# EAGLE library part 750311267 (library Midcom Inc - EAGLE Lib V2-0)
Package Style: PQ3230 Mounting: THT Pins: 12 pins Bobbin: 070-4796 Best pinouts for production vary per application. Please contact Wurth Electronics Midcom, Inc. for assistance with your custom design. Website: Wurth Electronics Midcom <http://www.we-online.com/midcom> Contact us Wurth Electronics Midcom, Inc. 121 Airport Dr. Watertown, SD 57201 Phone: (605) 886-4385 Fax: (605) 886-4486 E-Mail: midcom@we-online.com
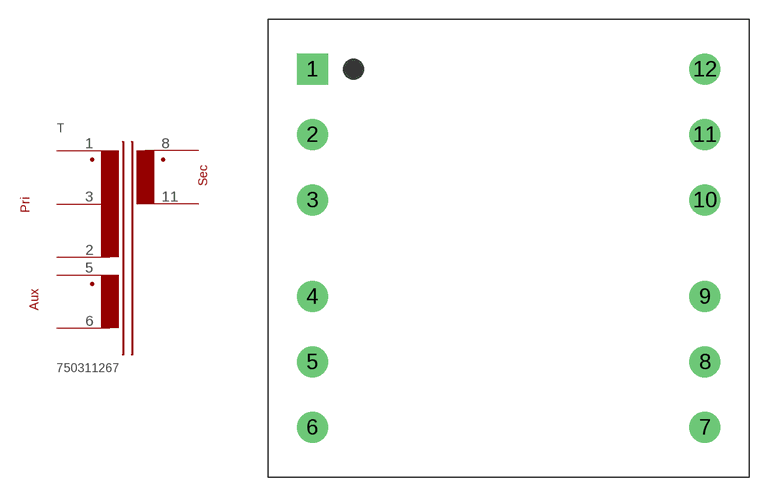
[diagram p336: symbol with the pads of PQ3230_THT_V_12PIN_(4796); footprint PQ3230_THT_V_12PIN_(4796)]

Designator prefix T

## 750311267  [PQ3230_THT_V_12PIN_(4796)]
1  1  pas
2  2  pas
3  3  pas
5  5  pas
6  6  pas
8  8  pas
11  11  pas

## Footprint PQ3230_THT_V_12PIN_(4796) (pad centres in mm)
Package Style: PQ3230 Mounting: THT Pins: 12 Bobbin: 070-4796
drill 1.6 square: 1 -15.24,13.906
drill 1.6: 2 -15.24,8.826; 3 -15.24,3.747; 4 -15.24,-3.747; 5 -15.24,-8.826; 6 -15.24,-13.906; 7 15.24,-13.906; 8 15.24,-8.826; 9 15.24,-3.747; 10 15.24,3.747; 11 15.24,8.826; 12 15.24,13.906